# Altium footprint library Altium LCOGT PCB LIB.PCBLIB: 329 footprints (part 5 of 21)
Each footprint in its own frame and in the unit in brackets; x right, y up, seen from the top. Pads: shape width x height; smd on the part's side, far side on the other; paste and mask are expansions set on the pad; w line width, h text height; cw(c..) or ccw(c..) is an arc to the next point about the centre after c.
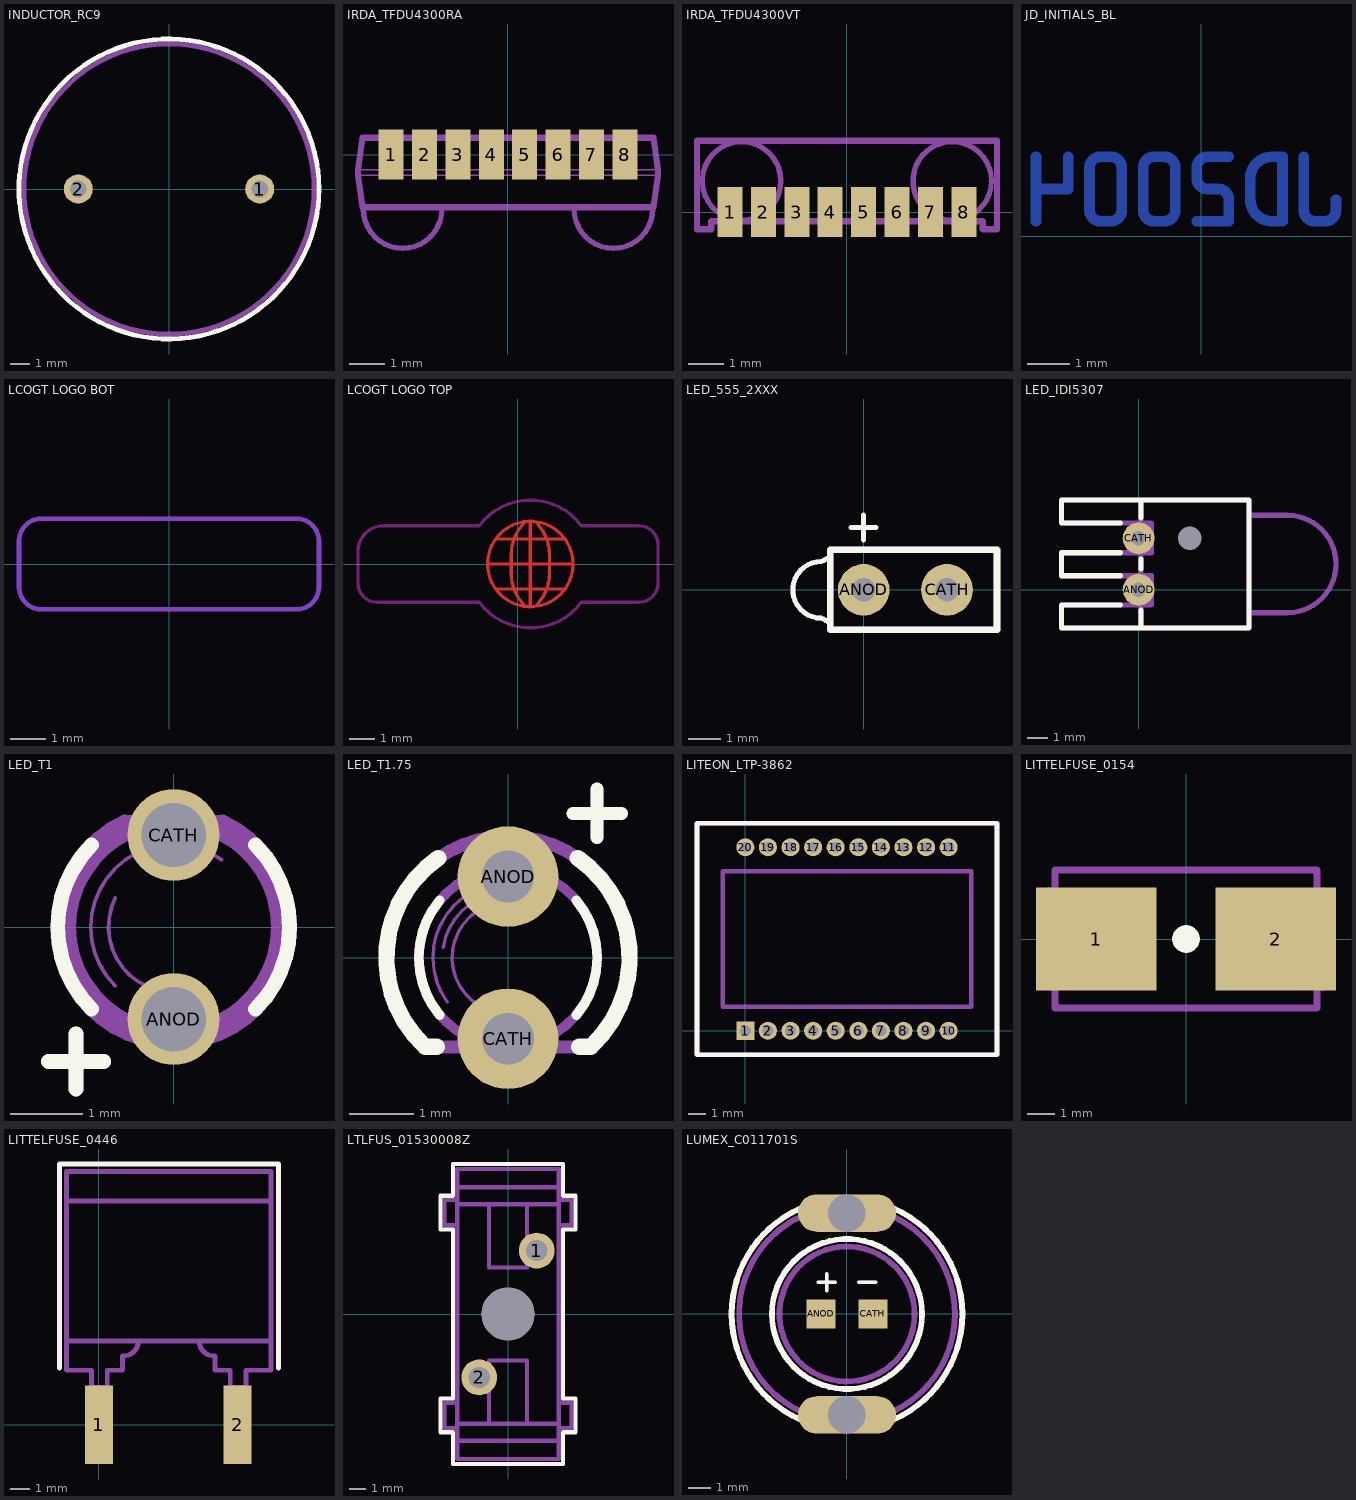
[diagram p4: the footprints below, top view; thin cyan lines are the x and y axes]

## INDUCTOR_RC9 [mil] "TRIAD MAGNETICS 200uH 10% THROUGH HOLE"
height 930
pads (2):
  round 60 hole 35: 1(187.5,0) 2(-187.5,0)
TopOverlay:
  circle w10: c0,0 r310
Mechanical3:
  circle w10: c0,0 r300

## IRDA_TFDU4300RA [mil]
pads (8):
  rect 28x56 smd: 1(-130.91,0) 2(-93.5,0) 3(-56.1,0) 4(-18.7,0) 5(18.7,0) 6(56.1,0) 7(93.5,0) 8(130.91,0)
Mechanical3:
  lines w2: -168,-23 168,-23 ; -168,-17 168,-17
  lines w6: -162,-59 -162,-61 ccw(c-118,-61) -74,-61 -74,-59 ; 74,-59 74,-61 ccw(c118,-61) 162,-61 162,-59
  lines w7: -168,-23 -168,-17 -163,19 163,19 168,-17 168,-23 163,-59 -163,-59 -168,-23

## IRDA_TFDU4300VT [mil]
pads (8):
  rect 28x56 smd: 1(-130.91,0) 2(-93.5,0) 3(-56.1,0) 4(-18.7,0) 5(18.7,0) 6(56.1,0) 7(93.5,0) 8(130.91,0)
Mechanical3:
  circle w6: c-118,35 r44
  circle w6: c118,35 r44
  lines w4: -140.41,-10 -140.41,-19 -121.41,-19 -121.41,-10 ; -103,-10 -103,-19 -84,-19 -84,-10 ; -65.6,-10 -65.6,-19 -46.6,-19 -46.6,-10 ; -28.2,-10 -28.2,-19 -9.2,-19 -9.2,-10 ; 9.2,-10 9.2,-19 28.2,-19 28.2,-10 ; 46.6,-10 46.6,-19 65.6,-19 65.6,-10 ; 84,-10 84,-19 103,-19 103,-10 ; 121.41,-10 121.41,-19 140.41,-19 140.41,-10
  lines w7: -167.91,-19 -152,-19 -152,-10 152,-10 152,-19 168.09,-19 168.09,80 -167.91,80 -167.91,-19

## JD_INITIALS_BL [mil]
BottomLayer:
  lines w10: -154.45,13.9 -154.45,43.9 ; -154.45,73.9 -154.45,43.9 ; -124.45,73.9 -124.45,43.9 -154.45,43.9 ; -4.45,13.9 25.55,13.9 25.55,33.9 ccw(c15.55,33.9) 15.55,43.9 5.55,43.9 cw(c5.55,53.9) -4.45,53.9 -4.45,63.9 cw(c5.55,63.9) 5.55,73.9 25.55,73.9 ; 95.55,73.9 95.55,23.9 ccw(c105.55,23.9) 105.55,13.9 115.55,13.9 ccw(c115.55,23.9) 125.55,23.9 125.55,33.9 ; -104.45,23.9 ccw(c-94.45,23.9) -94.45,13.9 -84.45,13.9 ccw(c-84.45,23.9) -74.45,23.9 -74.45,63.9 ccw(c-84.45,63.9) -84.45,73.9 -94.45,73.9 ccw(c-94.45,63.9) -104.45,63.9 -104.45,23.9 ; -54.45,23.9 ccw(c-44.45,23.9) -44.45,13.9 -34.45,13.9 ccw(c-34.45,23.9) -24.45,23.9 -24.45,63.9 ccw(c-34.45,63.9) -34.45,73.9 -44.45,73.9 ccw(c-44.45,63.9) -54.45,63.9 -54.45,23.9 ; 45.55,33.9 ccw(c65.55,33.9) 65.55,13.9 75.55,13.9 75.55,73.9 65.55,73.9 ccw(c65.55,53.9) 45.55,53.9 45.55,33.9

## JD_INITIALS_TL [mil]
TopLayer:
  text "JD2005" at -156.5,-25.59 h60

## LCOGT LOGO BOT [mil]
BottomLayer:
  text "LCOGT" at 145,-31 h100
BottomLayer keep-out:
  lines w5: -165,-25 ccw(c-140,-25) -140,-50 0,-50 140,-50 ccw(c140,-25) 165,-25 165,25 ccw(c140,25) 140,50 0,50 -140,50 ccw(c-140,25) -165,25 -165,-25

## LCOGT LOGO TOP [mil]
TopLayer:
  circle w5: c20,0 r67
  lines w5: -47,0 87,0 ; -34,-39 74,-39 ; -34,39 74,39 ; 11,-65 cw(c61.7,-14.3) -10,-14.3 -10,0 -10,14.3 cw(c61.7,14.3) 11,65 ; 20,-67 20,67 23,67 ; 29,-65 ccw(c-21.7,-14.3) 50,-14.3 50,0 50,14.3 ccw(c-21.7,14.3) 29,65
  text "LCOGT" at -222,-31 h100
  text ".n e t" at 90,-30 h50
TopLayer keep-out:
  lines w5: -250,-30 ccw(c-220,-30) -220,-60 -60,-60 ccw(c20,0) 100,-60 190,-60 ccw(c190,-30) 220,-30 220,30 ccw(c190,30) 190,60 100,60 ccw(c20,0) -60,60 -210,60 ccw(c-210,20) -250,20 -250,0 -250,-30
TopSolder:
  circle w10: c20,0 r75
  circle w30: c20,0 r86.01
  lines w5: -50,-60 -220,-60 cw(c-220,-30) -250,-30 -250,20 cw(c-210,20) -210,60 -50,60 ; -46,-73 ccw(c11.94,-15.06) 11.94,-97 20,-97 28.06,-97 ccw(c28.06,-15.06) 86,-73 ; -46,73 cw(c11.94,15.06) 11.94,97 20,97 28.06,97 cw(c28.06,15.06) 86,73 ; 90,-60 120,-60 ; 90,60 150,60 ; 118,-60 190,-60 ccw(c190,-30) 220,-30 220,30 ccw(c190,30) 190,60 148.28,60
  lines w40: -100,-20 -200,-20 -200,10 -70,10 -70,-40 -220,-40 cw(c-220,-30) -230,-30 -230,20 cw(c-210,20) -210,40 -60,40 ; 110,40 190,40 cw(c190,30) 200,30 200,-30 cw(c190,-30) 190,-40 110,-40 110,10 170,10 170,-10 140,-10
  text "LCOGT" at -222,-31 h100

## LED_555_2XXX [mil]
pads (2):
  round 62 hole 28: ANOD(0,0) CATH(100,0)
TopOverlay:
  lines w6: -40,-40 -45,-37 -48,-35 -51,-34 cw(c-51,0) -51,34 -48,35 -45,37 -40,40 ; -15,75 15,75 ; 0,60 0,90
  lines w8: -40,-48 -40,48 160,48 160,-48 -40,-48
Mechanical3:
  lines w6: -40,-40 -45,-37 -48,-35 -51,-34 cw(c-51,0) -51,34 -48,35 -45,37 -40,40
  lines w8: -40,-48 -40,48 160,48 160,-48 -40,-48

## LED_IDI5307 [mil]
pads (3):
  round 62 hole 28: ANOD(0,0) CATH(0,100)
  round 20 hole 46: ""(100,100)
TopOverlay:
  lines w10: -35,-30 -150,-30 -150,-75 215,-75 215,175 -150,175 -150,130 -35,130 ; -35,27 -150,27 -150,72 -35,72 ; 5,-75 5,-40 ; 5,40 5,60 ; 5,140 5,175
Mechanical3:
  lines w6: 25,-10 -10,-10 -10,10 25,10 ; 25,90 -10,90 -10,110 25,110
  lines w10: 5,-75 5,-30 ; 5,27 5,72 ; 5,130 5,175 ; 215,-45 290,-45 ccw(c290,50) 290,145 215,145 ; -150,-75 -150,-30 25,-30 25,27 -150,27 -150,72 25,72 25,130 -150,130 -150,175 215,175 215,-75 -150,-75

## LED_T1 [mil]
pads (2):
  round 50 hole 35: ANOD(0,-50) CATH(0,50)
TopOverlay:
  lines w8: -68,-73 -38,-73 ; -53,-88 -53,-58 ; -44.55,-44.55 cw(c0,0) -44.55,44.55 ; 44.55,-44.55 ccw(c0,0) 44.55,44.55
Mechanical3:
  circle w8: c0,0 r57
  lines w2: -31.82,-31.82 cw(c0,0) 26.16,36.62 ; -31.62,15.81 ccw(c0,0) 8.57,-34.3
  lines w8: -68,-73 -38,-73 ; -53,-88 -53,-58 ; -26.62,57.1 ccw(c0,0) 26.62,57.1 ; -26,57 26,57

## LED_T1.75 [mil]
pads (2):
  round 62 hole 32: ANOD(0,50) CATH(0,-50)
TopOverlay:
  lines w6: -42.13,-35.35 cw(c0,0) -42.13,35.35 ; 42.13,-35.35 ccw(c0,0) 42.13,35.35
  lines w8: 40,89 70,89 ; 55,74 55,104
  lines w10: -52.1,-53.95 cw(c0,0) -43.02,61.44 ; -51,-55 -44,-55 ; 43.02,61.44 cw(c0,0) 52.1,-53.95 ; 44,-55 51,-55
Mechanical3:
  circle w6: c0,0 r55
  lines w2: -39.96,6.24 cw(c0,0) 7.15,39.81 ; -37.46,-27.25 cw(c0,0) -15.83,43.54 ; -18.65,29.01 ccw(c0,0) -5.67,-34.01
  lines w8: -52.1,-53.95 cw(c0,0) 52.1,-53.95 ; -51,-55 51,-55 ; 40,89 70,89 ; 55,74 55,104

## LITEON_LTP-3862 [mil]
pads (20):
  rect 40x40 hole 24: 1(0,0)
  round 40 hole 24: 2(50,0) 3(100,0) 4(150,0) 5(200,0) 6(250,0) 7(300,0) 8(350,0) 9(400,0) 10(450,0) 11(450,406) 12(400,406) 13(350,406) 14(300,406) 15(250,406) 16(200,406) 17(150,406) 18(100,406) 19(50,406) 20(0,406)
TopOverlay:
  lines w10: -107,-53 557,-53 557,459 -107,459 -107,-53
Mechanical3:
  lines w10: -107,-53 557,-53 557,459 -107,459 -107,-53 ; -50,53 -50,353 500,353 500,53 -50,53

## LITTELFUSE_0154 [mil] "Fuseholder/fuse combo"
height 150
pads (2):
  rect 175x150 smd: 1(-130,0) 2(130,0)
TopOverlay:
  circle w20: c0,0 r10
Mechanical3:
  lines w10: -190,-70 -200,-70 -200,-60 -200,70 -190,70 ; 190,-70 200,-70 200,70 190,70 ; -190,-100 190,-100 190,100 0,100 -190,100 -190,-100

## LITTELFUSE_0446 [mil] "SMT MINI-FUSE"
pads (2):
  rect 57x159 smd: 1(0,0) 2(282,0)
TopOverlay:
  lines w10: -80,115 -80,525 -80,530 360,530 365,530 365,115
Mechanical3:
  lines w10: -66,455 350,455 ; 80,170 cw(c50,170) 50,140 48,140 48,111 17,111 17,76 ; 204,170 ccw(c234,170) 234,140 236,140 236,111 267,111 267,76 ; -66,170 -66,515 350,515 350,170 ; -66,170 350,170 ; -66,170 -66,111 -15,111 -15,76 ; -15,44 -15,76 ; -15,44 -15,-50 17,-50 17,44 ; -15,44 17,44 ; -15,76 17,76 ; 17,44 17,76 ; 267,44 267,-50 299,-50 299,44 ; 267,44 299,44 ; 267,44 267,76 ; 267,76 299,76 ; 299,44 299,76 ; 299,76 299,111 350,111 350,170

## LTLFUS_01530008Z [mil] "Miniblade Fuse Holder Vert"
height 753
pads (3):
  round 85 hole 50: 1(68,150) 2(-68,-150)
  round 125 hole 125 unplated: ""(0,0)
TopOverlay:
  lines w10: -160,-280 -130,-280 -130,-355 130,-355 130,-280 160,-280 160,-200 130,-200 130,200 160,200 160,280 130,280 130,355 -120,355 -130,355 -130,280 -160,280 -160,200 -130,200 -130,-200 -160,-200 -160,-280
Mechanical3:
  lines w10: -120,-270 -150,-270 -150,-210 -120,-210 ; -120,210 -150,210 -150,270 -120,270 ; -120,260 120,260 120,300 -120,300 ; -45,-260 -45,-110 45,-110 45,-260 ; -45,260 -45,110 45,110 45,260 ; 120,-270 150,-270 150,-210 120,-210 ; 120,210 150,210 150,270 120,270 ; -120,-343 120,-343 120,343 -120,343 -120,-343 ; -120,-300 120,-300 120,-260 -120,-260 -120,-300

## LUMEX_C011701S [mil] "FLEX LIGHT PIPE CLEAR"
pads (4):
  rect 50x50 smd: ANOD(-45,0) CATH(45,0)
  oval 170x65 hole 65 unplated: ""(0,-175) ""(0,175)
TopOverlay:
  circle w10: c0,0 r200
  circle w10: c0,0 r130
  lines w6: -50,55 -20,55 ; -35,40 -35,70 ; 20,55 50,55
InternalPlane1:
  rectangle: -110,125 110,225
  rectangle: -110,-225 110,-125
InternalPlane2:
  rectangle: -110,125 110,225
  rectangle: -110,-225 110,-125
Mechanical3:
  circle w10: c0,0 r117
  circle w10: c0,0 r187
  lines w6: -50,55 -20,55 ; -35,40 -35,70 ; 20,55 50,55